# EAGLE library part FPC-40WAY (library pimoroni-fpc)
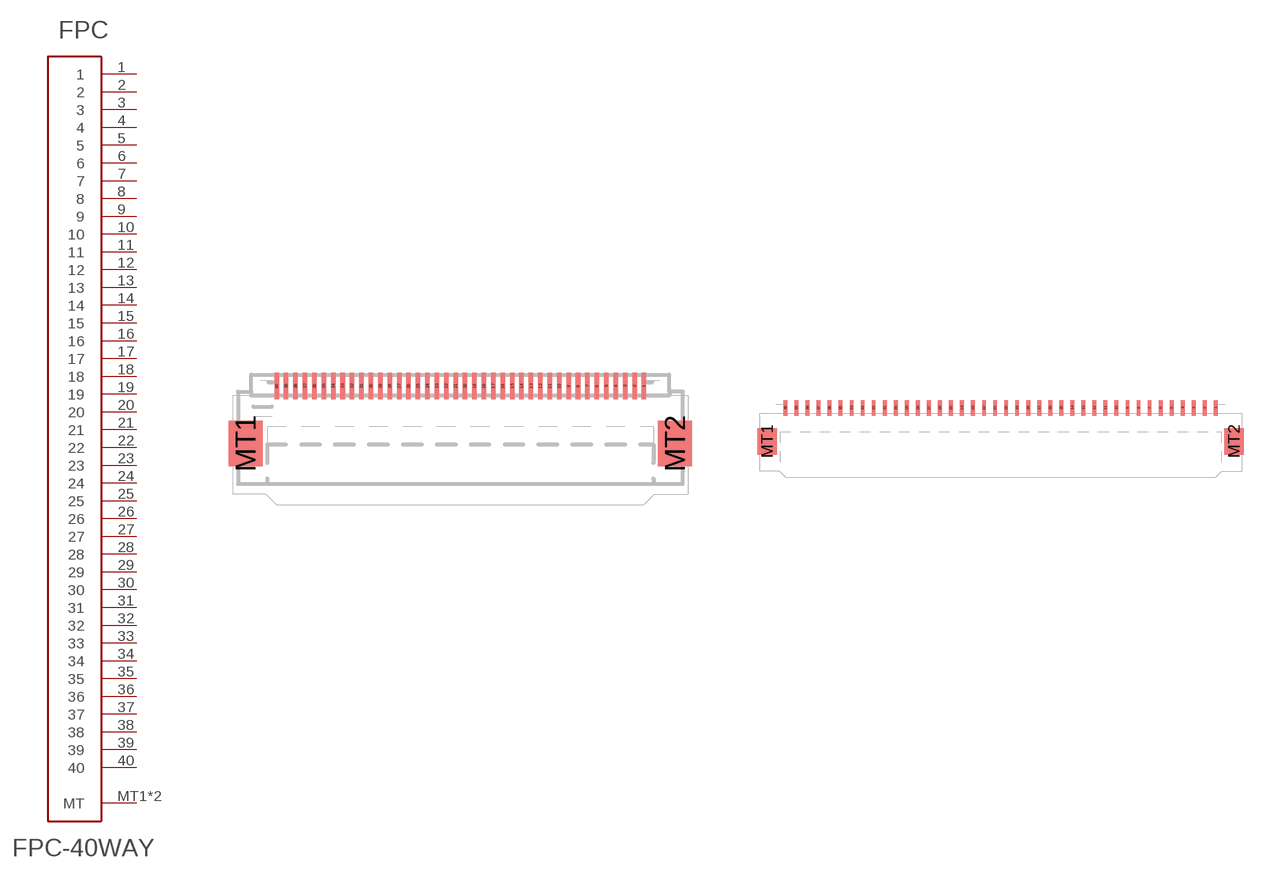
[diagram p35: symbol with the pads of FPC-0.5MM-40WAY; footprints FPC-0.5MM-40WAY, FPC-1.0MM-40WAY]

Designator prefix FPC

## FPC-40WAY0.5  [FPC-0.5MM-40WAY]
1  1
2  2
3  3
4  4
5  5
6  6
7  7
8  8
9  9
10  10
11  11
12  12
13  13
14  14
15  15
16  16
17  17
18  18
19  19
20  20
21  21
22  22
23  23
24  24
25  25
26  26
27  27
28  28
29  29
30  30
31  31
32  32
33  33
34  34
35  35
36  36
37  37
38  38
39  39
40  40
MT1  MT
MT2  MT

## FPC-40WAY1.0  [FPC-1.0MM-40WAY]
Pads as for FPC-0.5MM-40WAY

## Footprint FPC-0.5MM-40WAY (pad centres in mm)
smd 0.24 x 1.4: 1 9.75,0.7; 2 9.25,0.7; 3 8.75,0.7; 4 8.25,0.7; 5 7.75,0.7; 6 7.25,0.7; 7 6.75,0.7; 8 6.25,0.7; 9 5.75,0.7; 10 5.25,0.7; 11 4.75,0.7; 12 4.25,0.7; 13 3.75,0.7; 14 3.25,0.7; 15 2.75,0.7; 16 2.25,0.7; 17 1.75,0.7; 18 1.25,0.7; 19 0.75,0.7; 20 0.25,0.7; 21 -0.25,0.7; 22 -0.75,0.7; 23 -1.25,0.7; 24 -1.75,0.7; 25 -2.25,0.7; 26 -2.75,0.7; 27 -3.25,0.7; 28 -3.75,0.7; 29 -4.25,0.7; 30 -4.75,0.7; 31 -5.25,0.7; 32 -5.75,0.7; 33 -6.25,0.7; 34 -6.75,0.7; 35 -7.25,0.7; 36 -7.75,0.7; 37 -8.25,0.7; 38 -8.75,0.7; 39 -9.25,0.7; 40 -9.75,0.7
smd 1.8 x 2.4: MT1 -11.4,-2.35; MT2 11.4,-2.35

## Footprint FPC-1.0MM-40WAY (pad centres in mm)
smd 0.35 x 1.4: 1 19.5,0.7; 2 18.5,0.7; 3 17.5,0.7; 4 16.5,0.7; 5 15.5,0.7; 6 14.5,0.7; 7 13.5,0.7; 8 12.5,0.7; 9 11.5,0.7; 10 10.5,0.7; 11 9.5,0.7; 12 8.5,0.7; 13 7.5,0.7; 14 6.5,0.7; 15 5.5,0.7; 16 4.5,0.7; 17 3.5,0.7; 18 2.5,0.7; 19 1.5,0.7; 20 0.5,0.7; 21 -0.5,0.7; 22 -1.5,0.7; 23 -2.5,0.7; 24 -3.5,0.7; 25 -4.5,0.7; 26 -5.5,0.7; 27 -6.5,0.7; 28 -7.5,0.7; 29 -8.5,0.7; 30 -9.5,0.7; 31 -10.5,0.7; 32 -11.5,0.7; 33 -12.5,0.7; 34 -13.5,0.7; 35 -14.5,0.7; 36 -15.5,0.7; 37 -16.5,0.7; 38 -17.5,0.7; 39 -18.5,0.7; 40 -19.5,0.7
smd 1.8 x 2.4: MT1 -21.15,-2.35; MT2 21.15,-2.35